# EAGLE library part DW1000 (library decawave)
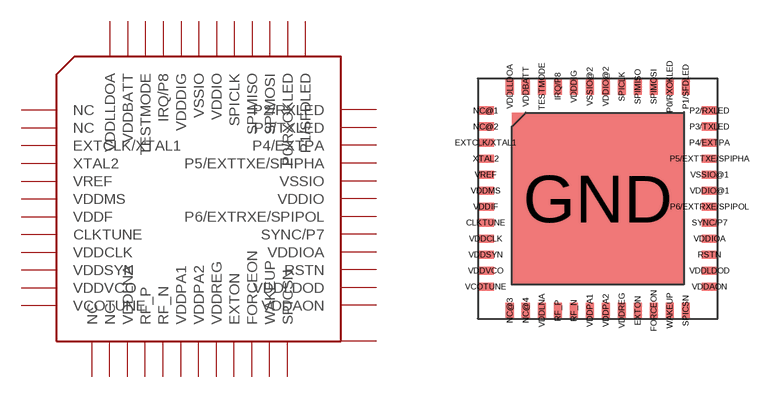
[diagram p1: symbol with the pads of DWICPAC; footprint DWICPAC]

Designator prefix -

## DW1000  [DWICPAC]
CLKTUNE  CLKTUNE
EXTCLK/XTAL1  EXTCLK/XTAL1
EXTON  EXTON
FORCEON  FORCEON
GND  GND_PLN
IRQ/P8  IRQ/P8
NC@1  NC
NC@2  NC
NC@3  NC
NC@4  NC
P0/RXOKLED  P0/RXOKLED
P1/SFDLED  P1/SFDLED
P2/RXLED  P2/RXLED
P3/TXLED  P3/TXLED
P4/EXTPA  P4/EXTPA
P5/EXTTXE/SPIPHA  P5/EXTTXE/SPIPHA
P6/EXTRXE/SPIPOL  P6/EXTRXE/SPIPOL
RF_N  RF_N
RF_P  RF_P
RSTN  RSTN
SPICLK  SPICLK
SPICSN  SPICSN
SPIMISO  SPIMISO
SPIMOSI  SPIMOSI
SYNC/P7  SYNC/P7
TESTMODE  TESTMODE
VCOTUNE  VCOTUNE
VDDAON  VDDAON
VDDBATT  VDDBATT
VDDCLK  VDDCLK
VDDDIG  VDDDIG
VDDIF  VDDF
VDDIO@1  VDDIO
VDDIO@2  VDDIO
VDDIOA  VDDIOA
VDDLDOD  VDDLDOD
VDDLLDOA  VDDLLDOA
VDDLNA  VDDLNA
VDDMS  VDDMS
VDDPA1  VDDPA1
VDDPA2  VDDPA2
VDDREG  VDDREG
VDDSYN  VDDSYN
VDDVCO  VDDVCO
VREF  VREF
VSSIO@1  VSSIO
VSSIO@2  VSSIO
WAKEUP  WAKEUP
XTAL2  XTAL2

## Footprint DWICPAC (pad centres in mm)
smd 0.4 x 0.2: CLKTUNE -2.8,-0.6; EXTCLK/XTAL1 -2.8,1.4; NC@1 -2.8,2.2; NC@2 -2.8,1.8; P2/RXLED 2.8,2.2; P3/TXLED 2.8,1.8; P4/EXTPA 2.8,1.4; P5/EXTTXE/SPIPHA 2.8,1; P6/EXTRXE/SPIPOL 2.8,-0.2; RSTN 2.8,-1.4; SYNC/P7 2.8,-0.6; VCOTUNE -2.8,-2.2; VDDAON 2.8,-2.2; VDDCLK -2.8,-1; VDDIF -2.8,-0.2; VDDIO@1 2.8,0.2; VDDIOA 2.8,-1; VDDLDOD 2.8,-1.8; VDDMS -2.8,0.2; VDDSYN -2.8,-1.4; VDDVCO -2.8,-1.8; VREF -2.8,0.6; VSSIO@1 2.8,0.6; XTAL2 -2.8,1
smd 0.2 x 0.4: EXTON 1,-2.8; FORCEON 1.4,-2.8; IRQ/P8 -1,2.8; NC@3 -2.2,-2.8; NC@4 -1.8,-2.8; P0/RXOKLED 1.8,2.8; P1/SFDLED 2.2,2.8; RF_N -0.6,-2.8; RF_P -1,-2.8; SPICLK 0.6,2.8; SPICSN 2.2,-2.8; SPIMISO 1,2.8; SPIMOSI 1.4,2.8; TESTMODE -1.4,2.8; VDDBATT -1.8,2.8; VDDDIG -0.6,2.8; VDDIO@2 0.2,2.8; VDDLLDOA -2.2,2.8; VDDLNA -1.4,-2.8; VDDPA1 -0.2,-2.8; VDDPA2 0.2,-2.8; VDDREG 0.6,-2.8; VSSIO@2 -0.2,2.8; WAKEUP 1.8,-2.8
smd 4.3 x 4.3: GND 0,0